# Altium integrated library LE5010.IntLib: 3 symbols
Pins are listed as number, name and electrical type; pins without a type are passive.

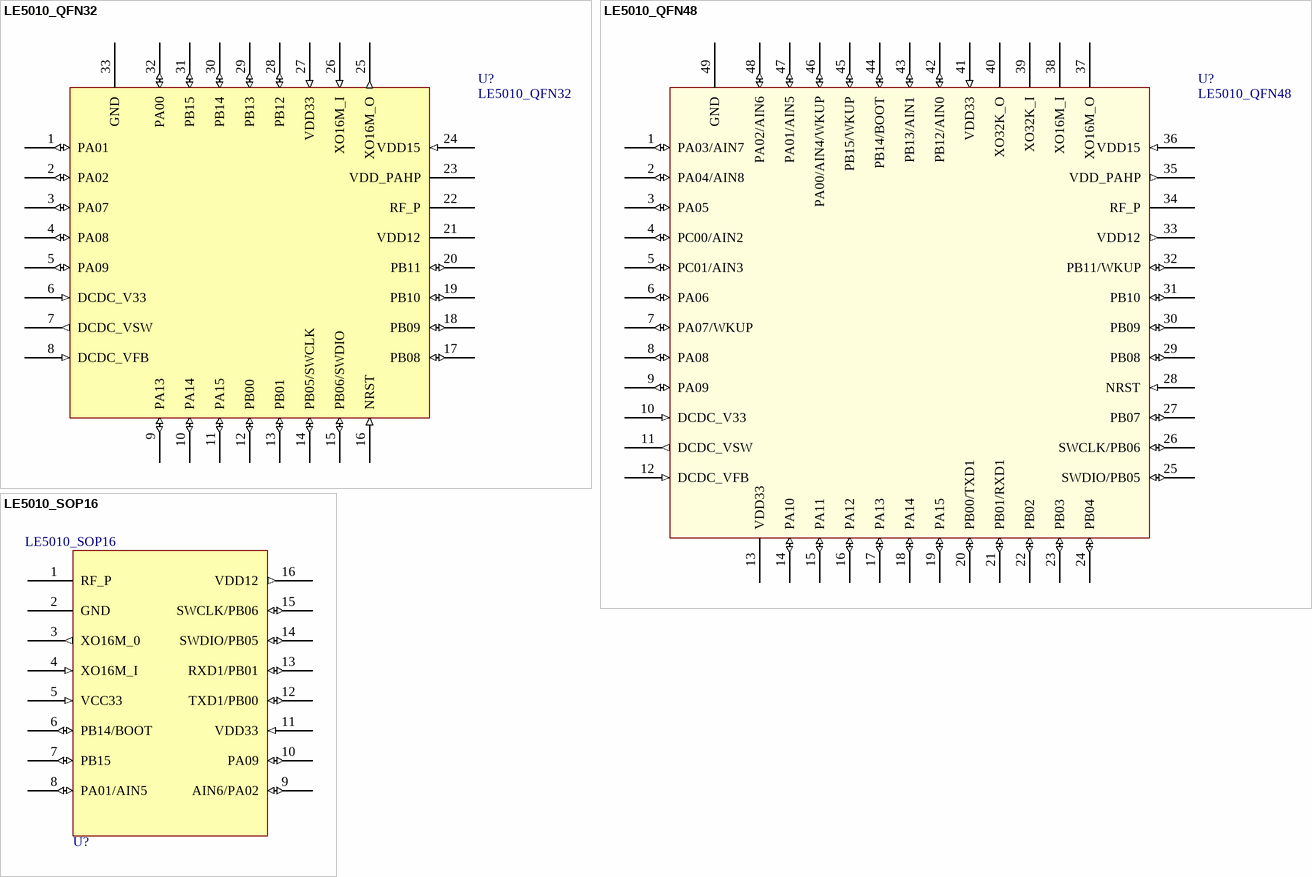
[diagram p0: symbols LE5010_QFN32 to LE5010_SOP16]

## LE5010_QFN32
designator U?
footprint VQFN-32_L4.0-W4.0-P0.40-TL-EP
pins: 1 PA01 (io), 2 PA02 (io), 3 PA07 (io), 4 PA08 (io), 5 PA09 (io), 6 DCDC_V33 (in), 7 DCDC_VSW (out), 8 DCDC_VFB (in), 9 PA13 (io), 10 PA14 (io), 11 PA15 (io), 12 PB00 (io), 13 PB01 (io), 14 PB05/SWCLK (io), 15 PB06/SWDIO (io), 16 NRST (in), 17 PB08 (io), 18 PB09 (io), 19 PB10 (io), 20 PB11 (io), 21 VDD12 (power), 22 RF_P, 23 VDD_PAHP, 24 VDD15 (in), 25 XO16M_O (out), 26 XO16M_I (in), 27 VDD33 (in), 28 PB12 (io), 29 PB13 (io), 30 PB14 (io), 31 PB15 (io), 32 PA00 (io), 33 GND

## LE5010_QFN48
designator U?
footprint QFN-64_L9.0-W9.0-P0.50-BL-EP7.2
footprint QFN-48_L6.0-W6.0-P0.40-BL-EP4.2
footprint QFN-48_L6.0-W6.0-P0.40-BL-EP4.2
pins: 1 PA03/AIN7 (io), 2 PA04/AIN8 (io), 3 PA05 (io), 4 PC00/AIN2 (io), 5 PC01/AIN3 (io), 6 PA06 (io), 7 PA07/WKUP (io), 8 PA08 (io), 9 PA09 (io), 10 DCDC_V33 (in), 11 DCDC_VSW (out), 12 DCDC_VFB (in), 13 VDD33, 14 PA10 (io), 15 PA11 (io), 16 PA12 (io), 17 PA13 (io), 18 PA14 (io), 19 PA15 (io), 20 PB00/TXD1 (io), 21 PB01/RXD1 (io), 22 PB02 (io), 23 PB03 (io), 24 PB04 (io), 25 SWDIO/PB05 (io), 26 SWCLK/PB06 (io), 27 PB07 (io), 28 NRST (in), 29 PB08 (io), 30 PB09 (io), 31 PB10 (io), 32 PB11/WKUP (io), 33 VDD12 (out), 34 RF_P, 35 VDD_PAHP (out), 36 VDD15 (in), 37 XO16M_O, 38 XO16M_I, 39 XO32K_I, 40 XO32K_O, 41 VDD33 (in), 42 PB12/AIN0 (io), 43 PB13/AIN1 (io), 44 PB14/BOOT (io), 45 PB15/WKUP (io), 46 PA00/AIN4/WKUP (io), 47 PA01/AIN5 (io), 48 PA02/AIN6 (io), 49 GND

## LE5010_SOP16
designator U?
footprint SOP-16_L10.0-W3.9-P1.27-LS6.0-BL
footprint SOP-16_L10.0-W3.9-P1.27-LS6.0-BL
pins: 1 RF_P, 2 GND, 3 XO16M_0 (out), 4 XO16M_I (in), 5 VCC33 (in), 6 PB14/BOOT (io), 7 PB15 (io), 8 PA01/AIN5 (io), 9 AIN6/PA02 (io), 10 PA09 (io), 11 VDD33 (in), 12 TXD1/PB00 (io), 13 RXD1/PB01 (io), 14 SWDIO/PB05 (io), 15 SWCLK/PB06 (io), 16 VDD12 (out)